# Altium schematic symbol library DiodeMBR0520W.SchLib: 1 symbol
Pins are listed as number, name and electrical type; pins without a type are passive.

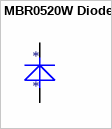
[diagram p0: symbol MBR0520W Diode]

## MBR0520W Diode
designator *
DigiKey Part Number: DigiKey Part Number
footprint SOD123 (SOD123, 2-Leads, Body 2.7x1.55mm, Height 1.45mm)
pins: 1 K, 2 A